# EAGLE library part 9-6437287-8 (library 9-6437287-8)
Header horizontal 26 way pin SuperSeal Source: Datasheet <https://componentsearchengine.com/Datasheets/2/9-6437287-8.pdf>
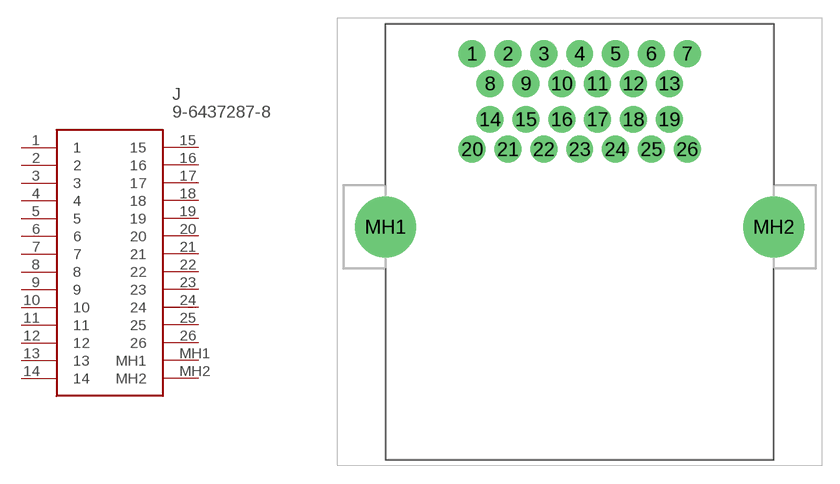
[diagram p0: symbol with the pads of 964372878; footprint 964372878]

Designator prefix J

## 9-6437287-8 (Description: Header horizontal 26 way pin SuperSeal; Height: 27.9mm; Manufacturer_Name: TE Connectivity; Manufacturer_Part_Number: 9-6437287-8; Mouser_Part_Number: 571-9-6437287-8; Mouser_Price-Stock: https://www.mouser.co.uk/ProductDetail/TE-Connectivity/9-6437287-8?qs=c1ErmWplw0NzPHbjoONVkQ%3D%3D)  [964372878]
1  1
2  2
3  3
4  4
5  5
6  6
7  7
8  8
9  9
10  10
11  11
12  12
13  13
14  14
15  15
16  16
17  17
18  18
19  19
20  20
21  21
22  22
23  23
24  24
25  25
26  26
MH1  MH1
MH2  MH2

## Footprint 964372878 (pad centres in mm)
9-6437287-8-3
drill 1.5 pad 2.25: 1 0,0; 2 3,0; 3 6,0; 4 9,0; 5 12,0; 6 15,0; 7 18,0; 8 1.5,-2.5; 9 4.5,-2.5; 10 7.5,-2.5; 11 10.5,-2.5; 12 13.5,-2.5; 13 16.5,-2.5; 14 1.5,-5.5; 15 4.5,-5.5; 16 7.5,-5.5; 17 10.5,-5.5; 18 13.5,-5.5; 19 16.5,-5.5; 20 0,-8; 21 3,-8; 22 6,-8; 23 9,-8; 24 12,-8; 25 15,-8; 26 18,-8
drill 3.4 pad 5.1: MH1 -7.25,-14.5; MH2 25.25,-14.5